# EAGLE library part COMPARATOR:ADCMP572-3(0.15NS-PECL) (library QuantumOptics)
ADCMP572-3 Comparator, Analog Devices, PECL/CML, 150pS. e.g. http://www.analog.com/UploadedFiles/Data_Sheets/ADCMP572_573.pdf
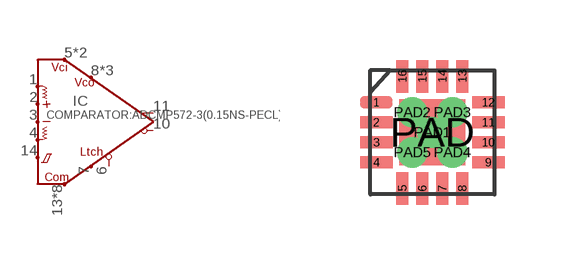
[diagram p90: symbol with the pads of LFCSP-16; footprint LFCSP-16]

Designator prefix IC

## COMPARATOR:ADCMP572-3(0.15NS-PECL)-LFCSP16  [LFCSP-16]
1  VPT
2  VP
3  VN
4  VNT
5  VCCI1
6  LE-  in
7  LE+  in
8  VCCO
9  VCCO
10  Q-
11  Q+
12  VCCO
13  COM
14  HYS
15  COM
16  VCCI1
PAD  COM
PAD1  COM
PAD2  COM
PAD3  COM
PAD4  COM
PAD5  COM

## Footprint LFCSP-16 (pad centres in mm)
LFCSP-16, Lead Frame Chip Scale Package with 16 pins. Themal vias are 0.010". Footprint feom Ana Dev's LFCSP_WQ (CP-16-22).
smd 0.813 x 0.305: 1 -1.4,0.75; 2 -1.4,0.25; 3 -1.4,-0.25; 4 -1.4,-0.75; 9 1.4,-0.75; 10 1.4,-0.25; 11 1.4,0.25; 12 1.4,0.75
smd 0.305 x 0.813: 5 -0.75,-1.4; 6 -0.25,-1.4; 7 0.25,-1.4; 8 0.75,-1.4; 13 0.75,1.4; 14 0.25,1.4; 15 -0.25,1.4; 16 -0.75,1.4
smd 1.65 x 1.65: PAD 0,0
drill 0.254 pad 0.64: PAD1 0,0; PAD2 -0.5,0.5; PAD3 0.5,0.5; PAD4 0.5,-0.5; PAD5 -0.5,-0.5